# Altium footprint library LV_module.PcbLib: 18 footprints (part 2 of 2)
Each footprint in its own frame and in the unit in brackets; x right, y up, seen from the top. Pads: shape width x height; smd on the part's side, far side on the other; paste and mask are expansions set on the pad; w line width, h text height; cw(c..) or ccw(c..) is an arc to the next point about the centre after c.
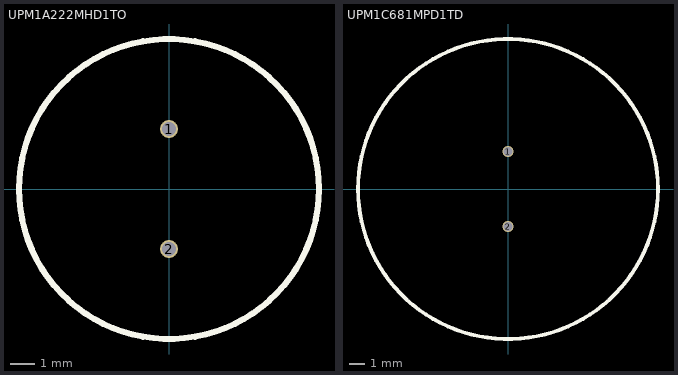
[diagram p1: the footprints below, top view; thin cyan lines are the x and y axes]

## UPM1A222MHD1TO [mm] "Nichicon 2200 uF"
pads (2):
  round 0.75 hole 0.6: 1(0,2.5) 2(0,-2.5)
Top Overlay:
  circle w0.254: c0,0 r6.25

## UPM1C681MPD1TD [mm] "Nichicon Capacitor 680uF"
pads (2):
  round 0.75 hole 0.6: 1(0,2.5) 2(0,-2.5)
Top Overlay:
  circle w0.254: c0,0 r10